# Altium footprint library DC-DC-AJ39_2023-06-08.PcbLib: 1 footprints
Each footprint in its own frame and in the unit in brackets; x right, y up, seen from the top. Pads: shape width x height; smd on the part's side, far side on the other; paste and mask are expansions set on the pad; w line width, h text height; cw(c..) or ccw(c..) is an arc to the next point about the centre after c.
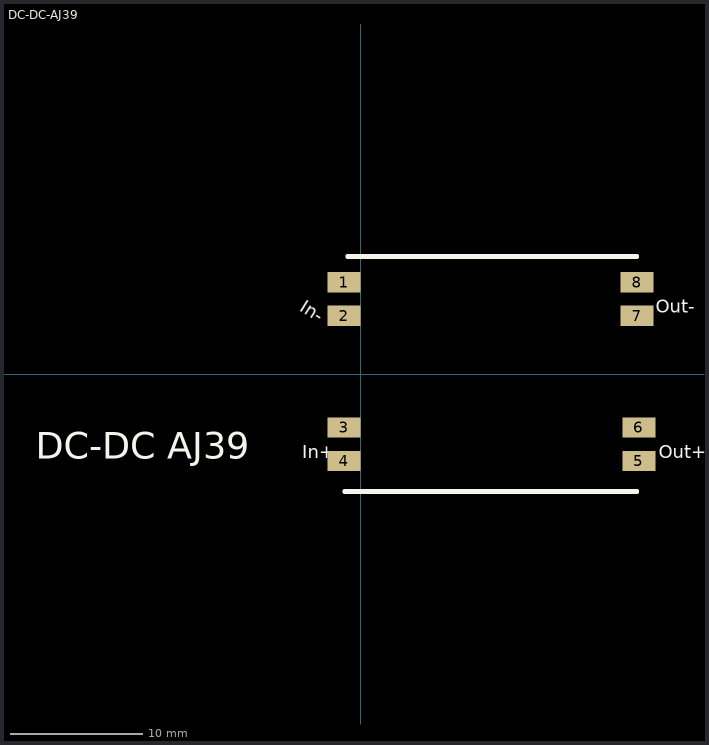
[diagram p0: the footprint, top view; thin cyan lines are the x and y axes]

## DC-DC-AJ39 [mm]
pads (8):
  rect 2.5x1.524 smd paste+0 mask+0.051: 1(-1.254,6.954) 2(-1.254,4.414) 3(-1.254,-4.046) 4(-1.254,-6.586) 5(21.098,-6.586) 6(21.098,-4.046) 7(20.971,4.414) 8(20.971,6.954)
Top Overlay:
  lines w0.254: -1.254,-8.954 -1.254,-8.826 20.971,-8.826 20.971,-8.954 -1.254,-8.954 ; -1,8.826 -1,8.954 20.971,8.954 20.971,8.826 -1,8.826
  text "DC-DC AJ39" at -24.622,-6.413 h2.03
  text "Out+" at 22.622,-6.405 h1
  text "In+" at -4.429,-6.405 h1
  text "Out-" at 22.368,4.644 h1
  text "In-" at -4.694,4.846 h1